# Altium schematic symbol library SCH - LDO - REF5025AIDR.Schlib: 1 symbol
Pins are listed as number, name and electrical type; pins without a type are passive.

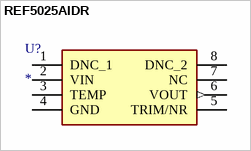
[diagram p0: symbol REF5025AIDR]

## REF5025AIDR
designator U?
Integrated Circuit
pins: 1 DNC_1, 2 VIN, 3 TEMP, 4 GND, 5 TRIM/NR, 6 VOUT (out), 7 NC, 8 DNC_2